# Altium schematic symbol library SCH - DRIVER - GATE - MICROCHIP MCP1401.SchLib: 1 symbol
Pins are listed as number, name and electrical type; pins without a type are passive.

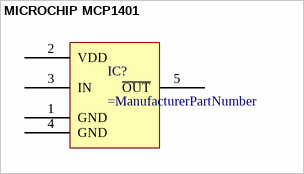
[diagram p0: symbol MICROCHIP MCP1401]

## MICROCHIP MCP1401
designator IC?
pins: 1 GND, 2 VDD, 3 IN, 4 GND, 5 ~{OUT}